# Altium footprint library Wi-Fi_Bluetooth.PcbLib: 2 footprints
Each footprint in its own frame and in the unit in brackets; x right, y up, seen from the top. Pads: shape width x height; smd on the part's side, far side on the other; paste and mask are expansions set on the pad; w line width, h text height; cw(c..) or ccw(c..) is an arc to the next point about the centre after c.
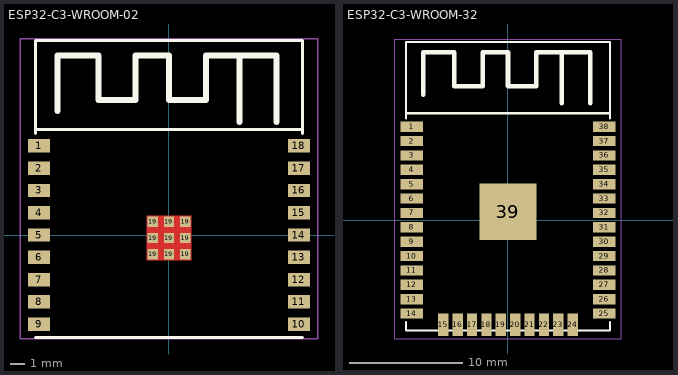
[diagram p0: the footprints below, top view; thin cyan lines are the x and y axes]

## ESP32­C3­WROOM­02 [mm] "18.0 x 20.0 x 3.2"
height 1.6
pads (27):
  rect 1.5x0.9 smd: 1(-8.75,6) 2(-8.75,4.5) 3(-8.75,3) 4(-8.75,1.5) 5(-8.75,0) 6(-8.75,-1.5) 7(-8.75,-3) 8(-8.75,-4.5) 9(-8.75,-6) 10(8.75,-6) 11(8.75,-4.5) 12(8.75,-3) 13(8.75,-1.5) 14(8.75,0) 15(8.75,1.5) 16(8.75,3) 17(8.75,4.5) 18(8.75,6)
  rect 0.7x0.7 smd: 19(-1.1,-1.3) 19(-1.1,-0.2) 19(-1.1,0.9) 19(0,-1.3) 19(0,-0.2) 19(0,0.9) 19(1.1,-1.3) 19(1.1,-0.2) 19(1.1,0.9)
Top Layer:
  region: -1.5,1.3 1.5,1.3 1.5,-1.7 -1.5,-1.7
Top Overlay:
  lines w0.2: -9,-6.9 9,-6.9 ; -9,6.85 -9,13.1 9,13.1 9,6.85 ; -9,7.1 9,7.1
  lines w0.4: -7.5,8.35 -7.5,12.1 -4.75,12.1 -4.75,9.1 -2.25,9.1 -2.25,12.1 0,12.1 0,9.1 2.5,9.1 2.5,12.1 7.25,12.1 7.25,7.6 ; 4.75,7.6 4.75,12.1
Border:
  lines w0.1: -10,-7 -10,13.2 10,13.2 10,-7 -10,-7
3D body "ESP32­C3­WROOM­02.stp": height 3.21, standoff 0, extent -9.01,-6.9 9.01,13.1

## ESP32­C3­WROOM­32 [mm] "(18.00±0.10) mm x (25.50±0.10) mm x (3.10±0.10) mm"
height 1.6
pads (39):
  rect 2x0.9 smd: 1(-8.5,8.255) 2(-8.5,6.985) 3(-8.5,5.715) 4(-8.5,4.445) 5(-8.5,3.175) 6(-8.5,1.905) 7(-8.5,0.635) 8(-8.5,-0.635) 9(-8.5,-1.905) 10(-8.5,-3.175) 11(-8.5,-4.445) 12(-8.5,-5.715) 13(-8.5,-6.985) 14(-8.5,-8.255) 25(8.5,-8.255) 26(8.5,-6.985) 27(8.5,-5.715) 28(8.5,-4.445) 29(8.5,-3.175) 30(8.5,-1.905) 31(8.5,-0.635) 32(8.5,0.635) 33(8.5,1.905) 34(8.5,3.175) 35(8.5,4.445) 36(8.5,5.715) 37(8.5,6.985) 38(8.5,8.255)
  rect 0.9x2 smd: 15(-5.715,-9.255) 16(-4.445,-9.255) 17(-3.175,-9.255) 18(-1.905,-9.255) 19(-0.635,-9.255) 20(0.635,-9.255) 21(1.905,-9.255) 22(3.175,-9.255) 23(4.445,-9.255) 24(5.715,-9.255)
  rect 5x5 smd: 39(0,0.755)
Top Overlay:
  lines w0.2: -9,-9 -9,-9.755 9,-9.755 9,-9 ; -9,9 -9,15.745 9,15.745 9,9 ; -9,9.445 9,9.445
  lines w0.4: -7.5,11.095 -7.5,14.845 -4.75,14.845 -4.75,11.845 -2.25,11.845 -2.25,14.845 0,14.845 0,11.845 2.5,11.845 2.5,14.845 7.25,14.845 7.25,10.345 ; 4.75,10.345 4.75,14.845
Border:
  lines w0.1: -10,-10.5 -10,16 10,16 10,-10.5 -10,-10.5
3D body "ESP32­C3­WROOM­32.stp": height 3.21, standoff 0, extent -9.01,-9.75 9.01,15.75